# EAGLE library part CN-TI-JTAG20PIN (library Connector)
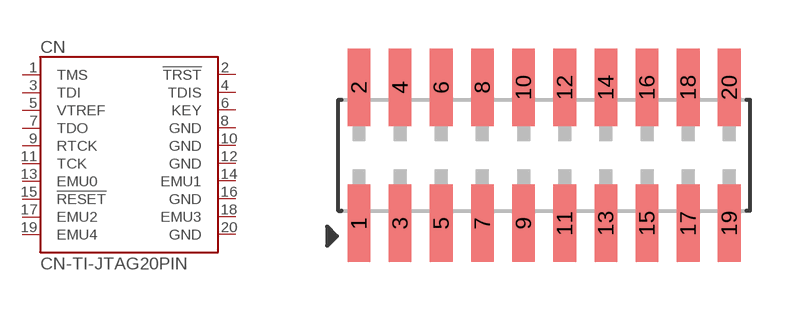
[diagram p29: symbol with the pads of PIN2X10-SMT1.27; footprint PIN2X10-SMT1.27]

Designator prefix CN

## CN-TI-JTAG20PIN  [PIN2X10-SMT1.27]
1  TMS  pas
2  !TRST  pas
3  TDI  pas
4  TDIS  pas
5  VTREF  pas
6  KEY  pas
7  TDO  pas
8  GND  pas
9  RTCK  pas
10  GND  pas
11  TCK  pas
12  GND  pas
13  EMU0  pas
14  EMU1  pas
15  !RESET  pas
16  GND  pas
17  EMU2  pas
18  EMU3  pas
19  EMU4  pas
20  GND  pas

## Footprint PIN2X10-SMT1.27 (pad centres in mm)
smd 0.7 x 2.4: 1 -5.715,-2.1; 2 -5.715,2.1; 3 -4.445,-2.1; 4 -4.445,2.1; 5 -3.175,-2.1; 6 -3.175,2.1; 7 -1.905,-2.1; 8 -1.905,2.1; 9 -0.635,-2.1; 10 -0.635,2.1; 11 0.635,-2.1; 12 0.635,2.1; 13 1.905,-2.1; 14 1.905,2.1; 15 3.175,-2.1; 16 3.175,2.1; 17 4.445,-2.1; 18 4.445,2.1; 19 5.715,-2.1; 20 5.715,2.1